# EAGLE library part 3415 (library pololu)
Pololu #3415 VL53L1X Time-of-Flight Distance Sensor (max 400cm)
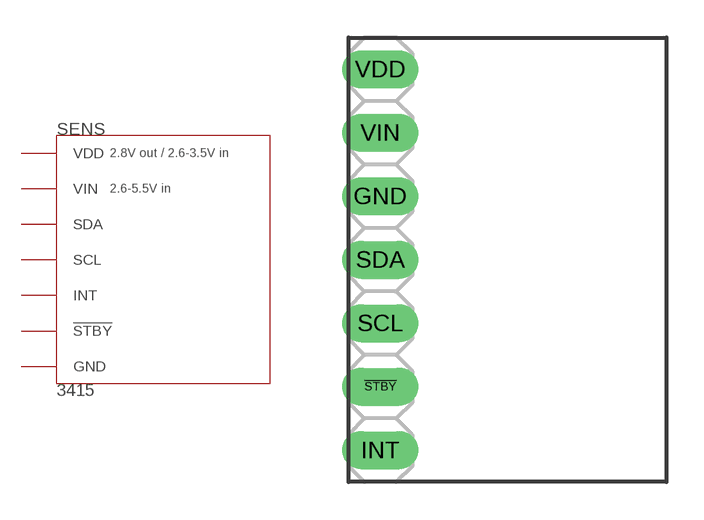
[diagram p2: symbol with the pads of 3415; footprint 3415]

Designator prefix SENS

## 3415  [3415]
!STBY!  !STBY!
GND  GND
INT  INT
SCL  SCL
SDA  SDA
VDD  VDD
VIN  VIN

## Footprint 3415 (pad centres in mm)
PIN HEADER
drill 1.016 long: !STBY! 0,-5.08; GND 0,2.54; INT 0,-7.62; SCL 0,-2.54; SDA 0,0; VDD 0,7.62; VIN 0,5.08